# Altium footprint library TO-220-3-S_2.pcblib: 1 footprints
Each footprint in its own frame and in the unit in brackets; x right, y up, seen from the top. Pads: shape width x height; smd on the part's side, far side on the other; paste and mask are expansions set on the pad; w line width, h text height; cw(c..) or ccw(c..) is an arc to the next point about the centre after c.
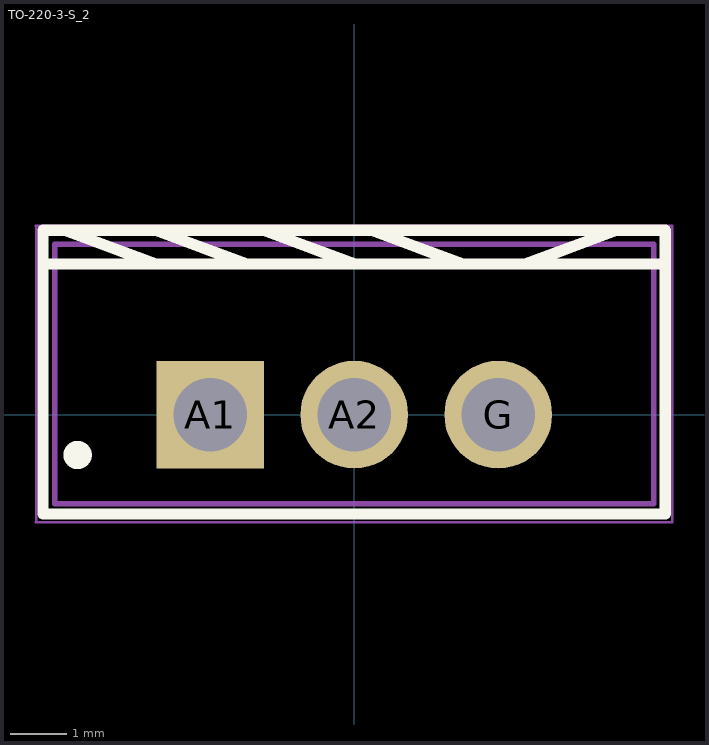
[diagram p0: the footprint, top view; thin cyan lines are the x and y axes]

## TO-220-3-S_2 [mm]
pads (3):
  rect 1.9x1.9 hole 1.3: A1(-2.54,0)
  round 1.9 hole 1.3: A2(0,0) G(2.54,0)
Top Overlay:
  circle w0.25: c-4.877,-0.711 r0.125
  lines w0.2: -5.486,2.657 5.461,2.657 ; -5.105,3.251 -3.505,2.657 ; -3.505,3.251 -1.905,2.657 ; -1.6,3.251 0,2.657 ; 0.305,3.251 1.905,2.657 ; 3.023,2.657 4.623,3.251 ; -5.486,-1.753 5.486,-1.753 5.486,3.251 -5.486,3.251 -5.486,-1.753
Mechanical 13:
  lines w0.1: -5.28,-1.571 -5.28,3.004 5.28,3.004 5.28,-1.571 -5.28,-1.571
Mechanical 15:
  lines w0.05: -5.613,-1.896 5.606,-1.896 5.606,3.329 -5.613,3.329 ; -5.605,-1.896 -5.605,3.329
3D body: height 18.92, standoff -9.73, extent -5.28,-1.571 5.28,3.004